# Altium footprint library TI.PcbLib: 20 footprints (part 1 of 2)
Each footprint in its own frame and in the unit in brackets; x right, y up, seen from the top. Pads: shape width x height; smd on the part's side, far side on the other; paste and mask are expansions set on the pad; w line width, h text height; cw(c..) or ccw(c..) is an arc to the next point about the centre after c.
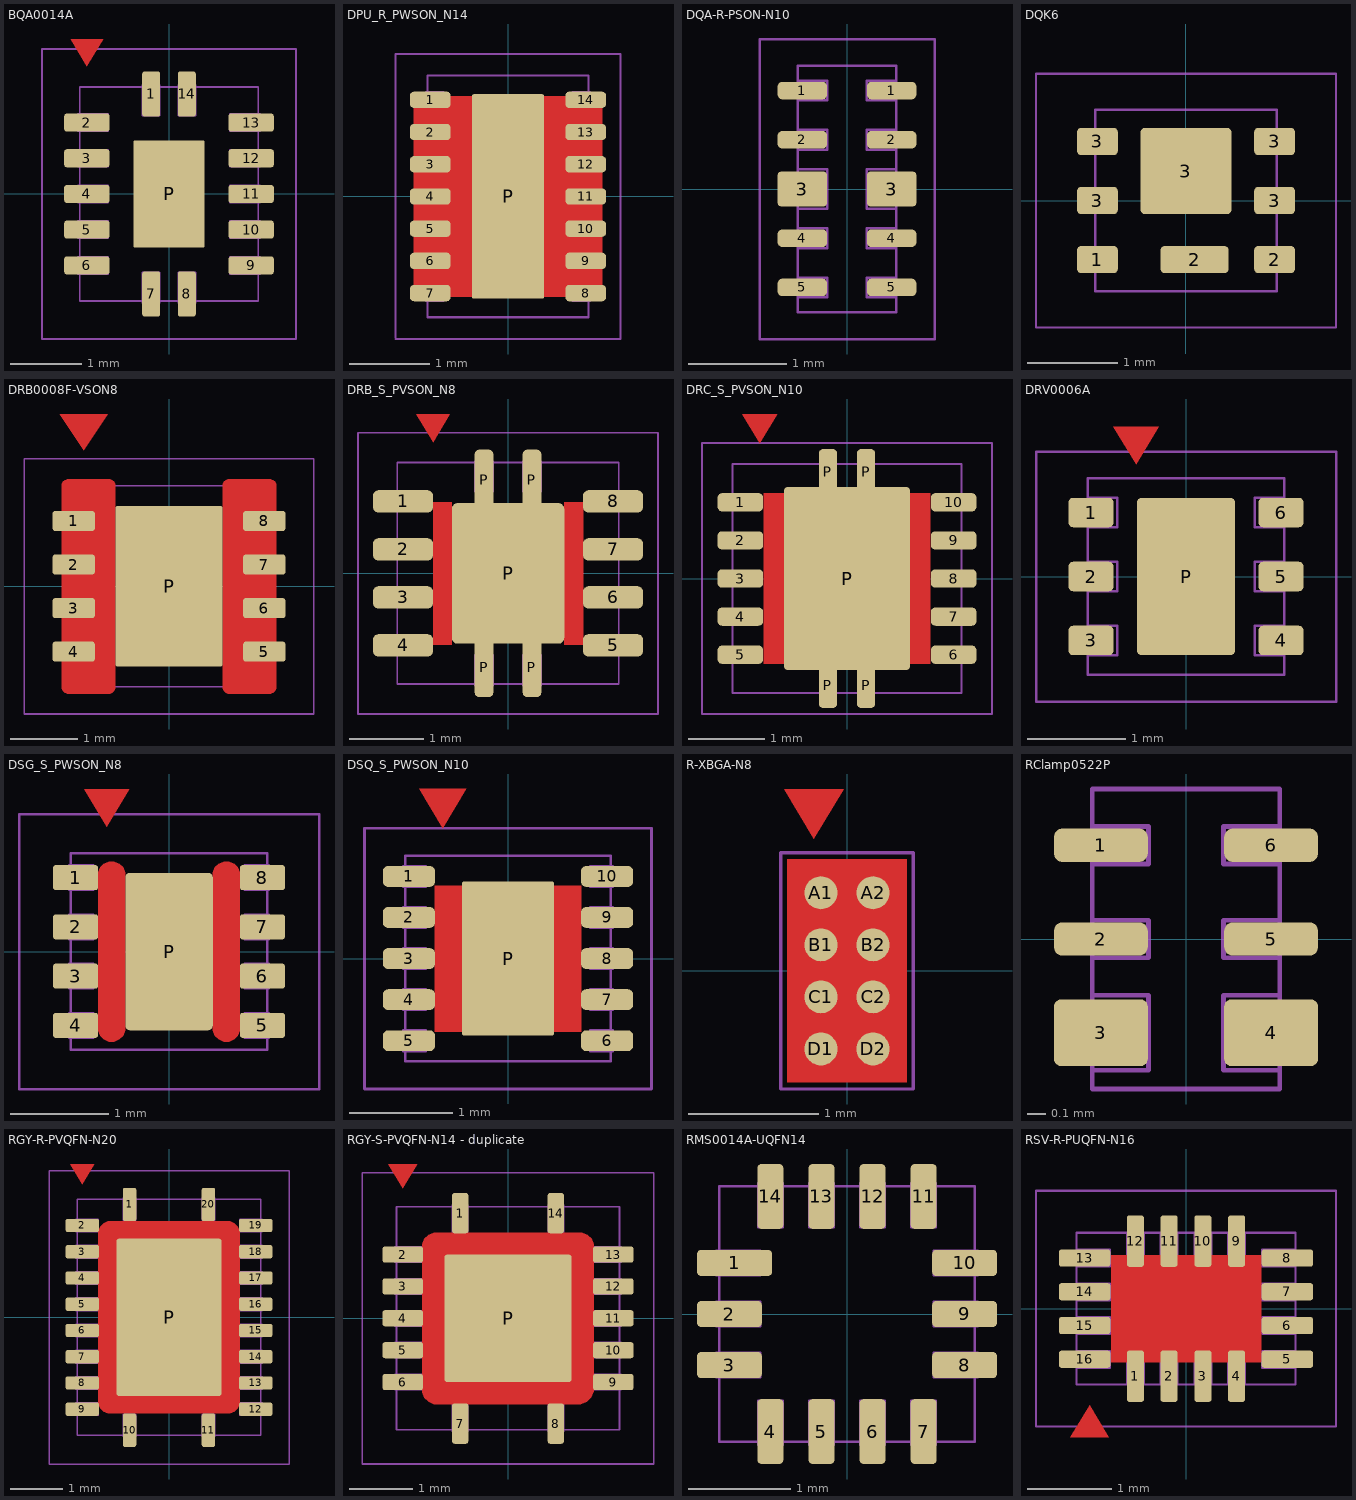
[diagram p0: the footprints below, top view; thin cyan lines are the x and y axes]

## BQA0014A [mm]
height 0.9
pads (15):
  rrect30% 0.254x0.635 smd mask+0.051: 1(-0.25,1.401) 7(-0.25,-1.401) 8(0.25,-1.401) 14(0.25,1.401)
  rrect30% 0.635x0.254 smd mask+0.051: 2(-1.151,1) 3(-1.151,0.5) 4(-1.151,0) 5(-1.151,-0.5) 6(-1.151,-1) 9(1.151,-1) 10(1.151,-0.5) 11(1.151,0) 12(1.151,0.5) 13(1.151,1)
  rrect5% 1x1.5 smd paste-200 mask+0.051: P(0,0)
Top Layer:
  region: -1.151,1.79 -0.922,2.171 -1.38,2.171
Top Paste:
  rectangle: -0.457,0.127 0.457,0.711
  region: 0.457,-0.127 -0.457,-0.127 -0.457,-0.711 0.457,-0.711
Top Courtyard:
  lines w0.025: -1.778,-2.032 1.778,-2.032 1.778,2.032 -1.778,2.032 -1.778,-2.032
Top Component Outline:
  lines w0.025: -1.278,-1.12 -1.278,-0.88 -0.85,-0.88 -0.85,-1.12 -1.278,-1.12 ; -1.278,-0.62 -0.85,-0.62 -0.85,-0.38 -1.278,-0.38 -1.278,-0.62 ; -1.278,-0.12 -1.278,0.12 -0.85,0.12 -0.85,-0.12 -1.278,-0.12 ; -1.278,0.38 -0.85,0.38 -0.85,0.62 -1.278,0.62 -1.278,0.38 ; -1.278,0.88 -0.85,0.88 -0.85,1.12 -1.278,1.12 -1.278,0.88 ; -1.25,-1.5 -1.25,1.5 1.25,1.5 1.25,-1.5 -1.25,-1.5 ; -0.37,-1.528 -0.37,-1.1 -0.13,-1.1 -0.13,-1.528 -0.37,-1.528 ; -0.37,1.1 -0.37,1.528 -0.13,1.528 -0.13,1.1 -0.37,1.1 ; 0.13,-1.528 0.37,-1.528 0.37,-1.1 0.13,-1.1 0.13,-1.528 ; 0.13,1.1 0.37,1.1 0.37,1.528 0.13,1.528 0.13,1.1 ; 0.85,-1.12 1.278,-1.12 1.278,-0.88 0.85,-0.88 0.85,-1.12 ; 0.85,-0.62 0.85,-0.38 1.278,-0.38 1.278,-0.62 0.85,-0.62 ; 0.85,-0.12 1.278,-0.12 1.278,0.12 0.85,0.12 0.85,-0.12 ; 0.85,0.38 0.85,0.62 1.278,0.62 1.278,0.38 0.85,0.38 ; 0.85,0.88 1.278,0.88 1.278,1.12 0.85,1.12 0.85,0.88
3D body: height 0.2, standoff 0, extent 0.85,0.88 1.278,1.12
3D body: height 0.2, standoff 0, extent 0.85,-0.12 1.278,0.12
3D body: height 0.2, standoff 0, extent 0.85,0.38 1.278,0.62
3D body: height 0.2, standoff 0, extent 0.85,-0.62 1.278,-0.38
3D body: height 0.2, standoff 0, extent 0.85,-1.12 1.278,-0.88
3D body: height 0.2, standoff 0, extent -0.37,1.1 -0.13,1.528
3D body: height 0.2, standoff 0, extent 0.13,1.1 0.37,1.528
3D body: height 0.79, standoff 0.03, extent -1.25,-1.5 1.25,1.5
3D body: height 0.9, standoff 0.89, extent -0.921,0.876 -0.617,1.18
3D body: height 0.2, standoff 0, extent -1.278,-0.12 -0.85,0.12
3D body: height 0.2, standoff 0, extent -1.278,-0.62 -0.85,-0.38
3D body: height 0.2, standoff 0, extent -1.278,0.38 -0.85,0.62
3D body: height 0.2, standoff 0, extent -1.278,0.88 -0.85,1.12
3D body: height 0.2, standoff 0, extent -1.278,-1.12 -0.85,-0.88
3D body: height 0.2, standoff 0, extent 0.13,-1.528 0.37,-1.1
3D body: height 0.2, standoff 0, extent -0.37,-1.528 -0.13,-1.1

## DPU_R_PWSON_N14 [mil] "10-Lead SON"
pads (15):
  rrect50% 20x8 smd mask+2: 1(-38,47.24) 2(-38,31.5) 3(-38,15.75) 4(-38,0) 5(-38,-15.75) 6(-38,-31.5) 7(-38,-47.24) 8(38,-47.24) 9(38,-31.5) 10(38,-15.75) 11(38,0) 12(38,15.75) 13(38,31.5) 14(38,47.24)
  rrect5% 35.43x100 smd paste-200 mask+2: P(0,0)
Top Layer:
  pour cut-out: -46,-49 46,-49 46,49 -46,49
Top Paste:
  region: 16,12.75 -16,12.75 -16,-12.25 16,-12.25
  rectangle: -16,23 16,48
  region: 16,-23 -16,-23 -16,-48 16,-48
Top Solder:
  region: 50,47.24 26,47.24 26,-47.24 50,-47.24
  rectangle: -50,-47.24 -26,47.24
  region: -25,66 -18,77 -32,77
Top Courtyard:
  lines w1: -55,-69.69 55,-69.69 55,69.68 -55,69.68 -55,-69
Top Component Outline:
  lines w1: -40.14,-51.18 -40.14,-43.31 -31.5,-43.31 -31.5,-51.18 -40.14,-51.18 ; -40.14,-35.43 -31.5,-35.43 -31.5,-27.56 -40.14,-27.56 -40.14,-35.43 ; -40.14,-19.68 -31.5,-19.68 -31.5,-11.81 -40.14,-11.81 -40.14,-19.68 ; -40.14,-3.94 -40.14,3.94 -31.5,3.94 -31.5,-3.94 -40.14,-3.94 ; -40.14,11.81 -31.5,11.81 -31.5,19.69 -40.14,19.69 -40.14,11.81 ; -40.14,27.56 -31.5,27.56 -31.5,35.43 -40.14,35.43 -40.14,27.56 ; -40.14,43.31 -40.14,51.18 -31.5,51.18 -31.5,43.31 -40.14,43.31 ; -39.37,-59.06 -39.37,59.05 39.37,59.05 39.37,-59.06 -39.37,-59.06 ; 31.5,-51.18 40.14,-51.18 40.14,-43.31 31.5,-43.31 31.5,-51.18 ; 31.5,-35.43 31.5,-27.56 40.14,-27.56 40.14,-35.43 31.5,-35.43 ; 31.5,-19.69 31.5,-11.81 40.14,-11.81 40.14,-19.69 31.5,-19.69 ; 31.5,-3.94 40.14,-3.94 40.14,3.94 31.5,3.94 31.5,-3.94 ; 31.5,11.81 40.14,11.81 40.14,19.68 31.5,19.68 31.5,11.81 ; 31.5,27.56 31.5,35.43 40.14,35.43 40.14,27.56 31.5,27.56 ; 31.5,43.31 40.14,43.31 40.14,51.18 31.5,51.18 31.5,43.31
3D body: height 35.43, standoff 1.97, extent -39.37,-59.06 39.37,59.06
3D body: height 7.87, standoff 0, extent -40.14,-3.94 -31.28,3.94
3D body: height 7.87, standoff 0, extent -40.14,11.81 -31.28,19.69
3D body: height 7.87, standoff 0, extent -40.14,-19.69 -31.28,-11.81
3D body: height 7.87, standoff 0, extent -40.14,43.31 -31.28,51.18
3D body: height 7.87, standoff 0, extent -40.14,27.56 -31.28,35.43
3D body: height 7.87, standoff 0, extent 31.28,-3.94 40.14,3.94
3D body: height 7.87, standoff 0, extent 31.28,-19.69 40.14,-11.81
3D body: height 7.87, standoff 0, extent 31.28,43.31 40.14,51.18
3D body: height 7.87, standoff 0, extent 31.28,11.81 40.14,19.69
3D body: height 7.87, standoff 0, extent 31.28,27.56 40.14,35.43
3D body: height 36, standoff 35, extent -30.95,38.7 -18.99,50.68
3D body: height 7.87, standoff 0, extent 31.28,-51.18 40.14,-43.31
3D body: height 7.87, standoff 0, extent 31.28,-35.43 40.14,-27.56
3D body: height 7.87, standoff 0, extent -40.14,-51.18 -31.28,-43.31
3D body: height 7.87, standoff 0, extent -40.14,-35.43 -31.28,-27.56

## DQA-R-PSON-N10 [mm]
pads (10):
  rrect50% 0.5x0.178 smd mask+0.051: 1(-0.454,1) 1(0.454,1) 2(-0.454,0.5) 2(0.454,0.5) 4(-0.454,-0.5) 4(0.454,-0.5) 5(-0.454,-1) 5(0.454,-1)
  rrect20% 0.5x0.356 smd mask+0.051: 3(-0.454,0) 3(0.454,0)
Top Courtyard:
  lines w0.025: -0.889,-1.524 -0.889,1.524 0.889,1.524 0.889,-1.524 -0.889,-1.524
Top Component Outline:
  lines w0.025: -0.5,-1.1 -0.2,-1.1 -0.2,-0.9 -0.5,-0.9 ; -0.5,-0.6 -0.2,-0.6 -0.2,-0.4 -0.5,-0.4 ; -0.5,-0.2 -0.2,-0.2 -0.2,0.2 -0.5,0.2 ; -0.5,0.4 -0.2,0.4 -0.2,0.6 -0.5,0.6 ; -0.5,0.9 -0.2,0.9 -0.2,1.1 -0.5,1.1 ; 0.5,-1.1 0.2,-1.1 0.2,-0.9 0.5,-0.9 ; 0.5,-0.6 0.2,-0.6 0.2,-0.4 0.5,-0.4 ; 0.5,-0.2 0.2,-0.2 0.2,0.2 0.5,0.2 ; 0.5,0.4 0.2,0.4 0.2,0.6 0.5,0.6 ; 0.5,0.9 0.2,0.9 0.2,1.1 0.5,1.1 ; -0.5,-1.25 -0.5,1.25 0.5,1.25 0.5,-1.25 -0.5,-1.25
3D body: height 0.58, standoff 0.01, extent -0.5,-1.25 0.5,1.25

## DQK6 [mm]
height 0.762
pads (8):
  rrect30% 0.45x0.3 smd mask+0.05: 1(-0.975,-0.65) 2(0.975,-0.65) 3(-0.975,0) 3(-0.975,0.65) 3(0.975,0) 3(0.975,0.65)
  rrect30% 0.75x0.3 smd paste-0.025 mask+0.05: 2(0.095,-0.65)
  rrect10% 1x0.95 smd paste-0.076 mask+0.05: 3(0,0.325)
Top Solder:
  region: -0.762,1.27 -0.533,1.651 -0.991,1.651
Top Courtyard:
  lines w0.025: -1.651,-1.397 1.651,-1.397 1.651,1.397 -1.651,1.397 -1.651,-1.397
Top Component Outline:
  lines w0.025: -1,-1 -1,1 1,1 1,-1 -1,-1
3D body "CSD19538Q2.step": height 0.8, standoff 0, extent -1,-1 1,1

## DRB0008F-VSON8 [mm]
height 0.9
pads (9):
  rrect30% 0.635x0.3 smd mask+0.051: 1(-1.422,0.975) 2(-1.422,0.325) 3(-1.422,-0.325) 4(-1.422,-0.975) 5(1.422,-0.975) 6(1.422,-0.325) 7(1.422,0.325) 8(1.422,0.975)
  rrect5% 1.6x2.4 smd paste-200 mask+0.051: P(0,0)
Top Layer:
  pour cut-out: -0.8,1.5 -0.8,1.52 -0.815,1.557 -0.843,1.585 -0.88,1.6 -0.9,1.6 -1.5,1.6 -1.52,1.6 -1.557,1.585 -1.585,1.557 -1.6,1.52 -1.6,1.5 -1.6,-1.5 -1.6,-1.52 -1.585,-1.557 -1.557,-1.585 -1.52,-1.6 -1.5,-1.6 -0.9,-1.6 -0.88,-1.6 -0.843,-1.585 -0.815,-1.557 -0.8,-1.52 -0.8,-1.5
  pour cut-out: 0.8,-1.5 0.8,-1.52 0.815,-1.557 0.843,-1.585 0.88,-1.6 0.9,-1.6 1.5,-1.6 1.52,-1.6 1.557,-1.585 1.585,-1.557 1.6,-1.52 1.6,-1.5 1.6,1.5 1.6,1.52 1.585,1.557 1.557,1.585 1.52,1.6 1.5,1.6 0.9,1.6 0.88,1.6 0.843,1.585 0.815,1.557 0.8,1.52 0.8,1.5
  region: -1.27,2.032 -0.911,2.571 -1.629,2.571
Top Paste:
  rectangle: -0.762,0.559 -0.127,1.168
  rectangle: -0.762,-0.305 -0.127,0.305
  rectangle: -0.762,-1.168 -0.127,-0.559
  rectangle: 0.127,-1.168 0.762,-0.559
  rectangle: 0.127,-0.305 0.762,0.305
  rectangle: 0.127,0.559 0.762,1.168
Top Courtyard:
  lines w0.025: -2.159,-1.905 -2.159,1.905 2.159,1.905 2.159,-1.905 -2.159,-1.905
Top Component Outline:
  lines w0.025: -1.524,-1.125 -1.096,-1.125 -1.096,-0.825 -1.524,-0.825 -1.524,-1.125 ; -1.524,-0.475 -1.096,-0.475 -1.096,-0.175 -1.524,-0.175 -1.524,-0.475 ; -1.524,0.175 -1.524,0.475 -1.096,0.475 -1.096,0.175 -1.524,0.175 ; -1.524,0.825 -1.096,0.825 -1.096,1.125 -1.524,1.125 -1.524,0.825 ; -1.5,-1.5 -1.5,1.5 1.5,1.5 1.5,-1.5 -1.5,-1.5 ; 1.096,-1.125 1.096,-0.825 1.524,-0.825 1.524,-1.125 1.096,-1.125 ; 1.096,-0.475 1.524,-0.475 1.524,-0.175 1.096,-0.175 1.096,-0.475 ; 1.096,0.175 1.096,0.475 1.524,0.475 1.524,0.175 1.096,0.175 ; 1.096,0.825 1.096,1.125 1.524,1.125 1.524,0.825 1.096,0.825
3D body: height 0.2, standoff 0, extent 1.096,0.825 1.524,1.125
3D body: height 0.2, standoff 0, extent 1.096,-1.125 1.524,-0.825
3D body: height 0.2, standoff 0, extent 1.096,-0.475 1.524,-0.175
3D body: height 0.2, standoff 0, extent 1.096,0.175 1.524,0.475
3D body: height 1.02, standoff 0.99, extent -1.218,0.915 -0.914,1.219
3D body: height 1, standoff 0.05, extent -1.5,-1.5 1.5,1.5
3D body: height 0.2, standoff 0, extent -1.524,-0.475 -1.096,-0.175
3D body: height 0.2, standoff 0, extent -1.524,0.175 -1.096,0.475
3D body: height 0.2, standoff 0, extent -1.524,0.825 -1.096,1.125
3D body: height 0.2, standoff 0, extent -1.524,-1.125 -1.096,-0.825

## DRB_S_PVSON_N8 [mil] "8-Lead SON"
height 39.37
pads (13):
  rrect50% 32x12 smd mask+2: 1(-56,38.39) 2(-56,12.8) 3(-56,-12.8) 4(-56,-38.39) 5(56,-38.39) 6(56,-12.8) 7(56,12.8) 8(56,38.39)
  rrect50% 10x32 smd paste-20 mask+2: P(-12.8,-50) P(-12.8,50) P(12.8,-50) P(12.8,50)
  rrect10% 60x75 smd paste-200 mask+2: P(0,0)
Top Layer:
  pour cut-out: -40,-38 -30,-38 -30,-31 30,-31 30,-38 40,-38 40,38 30,38 30,31 -30,31 -30,38 -40,38
  region: -40,70 -31,85 -49,85
Top Paste:
  rectangle: 4,-37 29,-4
  rectangle: -29,-37 -4,-4
  rectangle: 4,4 29,37
  rectangle: -29,4 -4,37
  rectangle: -17.72,-66 -7.87,-43.59
  rectangle: 7.87,-66 17.72,-43.59
  region: -7.87,66 -17.72,66 -17.72,43.59 -7.87,43.59
  region: 17.72,66 7.87,66 7.87,43.59 17.72,43.59
Top Courtyard:
  lines w1: -80,-75 80,-75 80,75 -80,75 -80,-75
Top Component Outline:
  lines w1: -59.73,-43.31 -59.73,-33.46 -43.59,-33.46 -43.59,-43.31 -59.73,-43.31 ; -59.73,-17.72 -59.73,-7.87 -43.59,-7.87 -43.59,-17.72 -59.73,-17.72 ; -59.73,7.87 -59.73,17.72 -43.59,17.72 -43.59,7.87 -59.73,7.87 ; -59.73,33.46 -43.59,33.46 -43.59,43.31 -59.73,43.31 -59.73,33.46 ; -59.06,-59.06 59.06,-59.06 59.06,59.06 -59.06,59.06 -59.06,-59.06 ; -17.72,-59.73 -17.72,-43.59 -7.87,-43.59 -7.87,-59.73 -17.72,-59.73 ; -17.72,43.59 -7.87,43.59 -7.87,59.73 -17.72,59.73 -17.72,43.59 ; 7.87,-59.73 17.72,-59.73 17.72,-43.59 7.87,-43.59 7.87,-59.73 ; 7.87,43.59 7.87,59.73 17.72,59.73 17.72,43.59 7.87,43.59 ; 43.59,-43.31 59.73,-43.31 59.73,-33.46 43.59,-33.46 43.59,-43.31 ; 43.59,-17.72 43.59,-7.87 59.73,-7.87 59.73,-17.72 43.59,-17.72 ; 43.59,7.87 43.59,17.72 59.73,17.72 59.73,7.87 43.59,7.87 ; 43.59,33.46 43.59,43.31 59.73,43.31 59.73,33.46 43.59,33.46
3D body: height 7.87, standoff 0, extent 43.59,-43.31 59.73,-33.46
3D body: height 7.87, standoff 0, extent 43.59,-17.72 59.73,-7.87
3D body: height 7.87, standoff 0, extent 43.59,7.87 59.73,17.72
3D body: height 7.87, standoff 0, extent 43.59,33.46 59.73,43.31
3D body: height 7.87, standoff 0, extent -59.73,-43.31 -43.59,-33.46
3D body: height 7.87, standoff 0, extent -59.73,-17.72 -43.59,-7.87
3D body: height 7.87, standoff 0, extent -59.73,7.87 -43.59,17.72
3D body: height 7.87, standoff 0, extent -59.73,33.46 -43.59,43.31
3D body: height 35.43, standoff 1.97, extent -59.06,-59.06 59.06,59.06
3D body: height 36, standoff 35, extent -49.54,37.33 -37.58,49.3
3D body: height 7.87, standoff 0, extent -17.72,-59.73 -7.87,-43.59
3D body: height 7.87, standoff 0, extent 7.87,-59.73 17.72,-43.59
3D body: height 7.87, standoff 0, extent -17.72,43.59 -7.87,59.73
3D body: height 7.87, standoff 0, extent 7.87,43.59 17.72,59.73

## DRC_S_PVSON_N10 [mm] "10-Lead SON"
pads (15):
  rrect50% 0.6x0.24 smd mask+0.051: 1(-1.4,1) 2(-1.4,0.5) 3(-1.4,0) 4(-1.4,-0.5) 5(-1.4,-1) 6(1.4,-1) 7(1.4,-0.5) 8(1.4,0) 9(1.4,0.5) 10(1.4,1)
  rrect50% 0.24x0.6 smd mask+0.051: P(-0.25,-1.4) P(-0.25,1.4) P(0.25,-1.4) P(0.25,1.4)
  rrect5% 1.65x2.4 smd paste-5.08 mask+0.051: P(0,0)
Top Layer:
  region: -1.143,1.778 -0.914,2.159 -1.372,2.159
  pour cut-out: -1.092,1.118 1.092,1.118 1.092,-1.118 -1.092,-1.118
Top Paste:
  rectangle: -0.762,0.127 0.762,0.889
  region: 0.762,-0.127 -0.762,-0.127 -0.762,-0.889 0.762,-0.889
Top Courtyard:
  lines w0.025: -1.905,-1.778 1.905,-1.778 1.905,1.778 -1.905,1.778 -1.905,-1.778
Top Component Outline:
  lines w0.025: -1.52,-1.1 -1.52,-0.9 -1.3,-0.9 -1.3,-1.1 -1.52,-1.1 ; -1.52,-0.6 -1.3,-0.6 -1.3,-0.4 -1.52,-0.4 -1.52,-0.6 ; -1.52,-0.1 -1.52,0.1 -1.3,0.1 -1.3,-0.1 -1.52,-0.1 ; -1.52,0.4 -1.52,0.6 -1.3,0.6 -1.3,0.4 -1.52,0.4 ; -1.52,0.9 -1.3,0.9 -1.3,1.1 -1.52,1.1 -1.52,0.9 ; -1.5,-1.5 1.5,-1.5 1.5,1.5 -1.5,1.5 -1.5,-1.5 ; 1.3,-1.1 1.52,-1.1 1.52,-0.9 1.3,-0.9 1.3,-1.1 ; 1.3,-0.6 1.3,-0.4 1.52,-0.4 1.52,-0.6 1.3,-0.6 ; 1.3,-0.1 1.3,0.1 1.52,0.1 1.52,-0.1 1.3,-0.1 ; 1.3,0.4 1.52,0.4 1.52,0.6 1.3,0.6 1.3,0.4 ; 1.3,0.9 1.3,1.1 1.52,1.1 1.52,0.9 1.3,0.9
3D body: height 0.91, standoff 0.89, extent -1.167,0.864 -0.863,1.168
3D body: height 0.9, standoff 0.05, extent -1.5,-1.5 1.5,1.5
3D body: height 0.2, standoff 0, extent 1.295,0.4 1.52,0.6
3D body: height 0.2, standoff 0, extent 1.295,-0.1 1.52,0.1
3D body: height 0.2, standoff 0, extent 1.295,0.9 1.52,1.1
3D body: height 0.2, standoff 0, extent 1.295,-1.1 1.52,-0.9
3D body: height 0.2, standoff 0, extent 1.295,-0.6 1.52,-0.4
3D body: height 0.2, standoff 0, extent -1.52,0.4 -1.295,0.6
3D body: height 0.2, standoff 0, extent -1.52,0.9 -1.295,1.1
3D body: height 0.2, standoff 0, extent -1.52,-1.1 -1.295,-0.9
3D body: height 0.2, standoff 0, extent -1.52,-0.1 -1.295,0.1
3D body: height 0.2, standoff 0, extent -1.52,-0.6 -1.295,-0.4

## DRV0006A [mm]
pads (7):
  rrect30% 0.457x0.3 smd mask+0.051: 1(-0.965,0.65) 2(-0.965,0) 3(-0.965,-0.65) 4(0.965,-0.65) 5(0.965,0) 6(0.965,0.65)
  rrect10% 1x1.6 smd mask+0.051: P(0,0)
Top Layer:
  region: -0.508,1.143 -0.279,1.524 -0.737,1.524
Top Courtyard:
  lines w0.025: -1.524,-1.27 -1.524,1.27 1.524,1.27 1.524,-1.27 -1.524,-1.27
Top Component Outline:
  lines w0.025: -1,-0.8 -0.7,-0.8 -0.7,-0.5 -1,-0.5 ; -1,-0.15 -0.7,-0.15 -0.7,0.15 -1,0.15 ; -1,0.5 -0.7,0.5 -0.7,0.8 -1,0.8 ; 1,-0.8 0.7,-0.8 0.7,-0.5 1,-0.5 ; 1,-0.15 0.7,-0.15 0.7,0.15 1,0.15 ; 1,0.5 0.7,0.5 0.7,0.8 1,0.8 ; -1,-1 1,-1 1,1 -1,1 -1,-1
3D body: height 0.2, standoff 0, extent 0.7,0.5 1.013,0.8
3D body: height 0.2, standoff 0, extent 0.7,-0.15 1.013,0.15
3D body: height 0.2, standoff 0, extent 0.7,-0.8 1.013,-0.5
3D body: height 0.2, standoff 0, extent -1.013,-0.8 -0.7,-0.5
3D body: height 0.2, standoff 0, extent -1.013,0.5 -0.7,0.8
3D body: height 0.2, standoff 0, extent -1.013,-0.15 -0.7,0.15
3D body: height 0.58, standoff 0.01, extent -1,-1 1,1

## DSG_S_PWSON_N8 [mil] "8-Lead SON"
pads (9):
  rrect20% 18x10 smd mask+2: 1(-37.37,29.53) 2(-37.37,9.84) 3(-37.37,-9.84) 4(-37.37,-29.53) 5(37.37,-29.53) 6(37.37,-9.84) 7(37.37,9.84) 8(37.37,29.53)
  rrect10% 35x63 smd paste-200 mask+2: P(0,0)
Top Layer:
  region: -25,50 -16,65 -34,65
  pour cut-out: -17.5,30.5 -17.5,31.59 -18.34,33.62 -19.88,35.16 -21.91,36 -23,36 -24.07,36 -26.04,35.18 -27.55,33.67 -28.37,31.7 -28.37,30.63 -28.37,-30.63 -28.37,-31.7 -27.55,-33.67 -26.04,-35.18 -24.07,-36 -23,-36 -21.91,-36 -19.88,-35.16 -18.34,-33.62 -17.5,-31.59 -17.5,-30.5
  pour cut-out: 17.5,-30.5 17.5,-31.59 18.34,-33.62 19.88,-35.16 21.91,-36 23,-36 24.07,-36 26.04,-35.18 27.55,-33.67 28.37,-31.7 28.37,-30.63 28.37,30.63 28.37,31.7 27.55,33.67 26.04,35.18 24.07,36 23,36 21.91,36 19.88,35.16 18.34,33.62 17.5,31.59 17.5,30.5
Top Paste:
  rectangle: -15,-30 15,-5
  rectangle: -15,5 15,30
Top Courtyard:
  lines w1: -60,-55 60,-55 60,55 -60,55 -60,-55
Top Component Outline:
  lines w1: -39.87,-34.45 -30.23,-34.45 -30.23,-24.61 -39.87,-24.61 -39.87,-34.45 ; -39.87,-14.76 -30.23,-14.76 -30.23,-4.92 -39.87,-4.92 -39.87,-14.76 ; -39.87,4.92 -39.87,14.76 -30.23,14.76 -30.23,4.92 -39.87,4.92 ; -39.87,24.61 -30.23,24.61 -30.23,34.45 -39.87,34.45 -39.87,24.61 ; -39.37,-39.37 39.37,-39.37 39.37,39.37 -39.37,39.37 -39.37,-39.37 ; 30.23,-34.45 39.87,-34.45 39.87,-24.61 30.23,-24.61 30.23,-34.45 ; 30.23,-14.76 30.23,-4.92 39.87,-4.92 39.87,-14.76 30.23,-14.76 ; 30.23,4.92 39.87,4.92 39.87,14.76 30.23,14.76 30.23,4.92 ; 30.23,24.61 39.87,24.61 39.87,34.45 30.23,34.45 30.23,24.61
3D body: height 7.87, standoff 0, extent 30.03,-14.76 39.87,-4.92
3D body: height 7.87, standoff 0, extent 30.03,-34.45 39.87,-24.61
3D body: height 7.87, standoff 0, extent 30.03,4.92 39.87,14.76
3D body: height 7.87, standoff 0, extent 30.03,24.61 39.87,34.45
3D body: height 7.87, standoff 0, extent -39.87,-34.45 -30.03,-24.61
3D body: height 7.87, standoff 0, extent -39.87,-14.76 -30.03,-4.92
3D body: height 7.87, standoff 0, extent -39.87,24.61 -30.03,34.45
3D body: height 7.87, standoff 0, extent -39.87,4.92 -30.03,14.76
3D body: height 29.53, standoff 1.97, extent -39.37,-39.37 39.37,39.37
3D body: height 30, standoff 29, extent -26.95,18.03 -15,30

## DSQ_S_PWSON_N10 [mil] "10-Lead SON"
pads (11):
  rrect50% 20x8 smd mask+2: 1(-38,31.5) 2(-38,15.75) 3(-38,0) 4(-38,-15.75) 5(-38,-31.5) 6(38,-31.5) 7(38,-15.75) 8(38,0) 9(38,15.75) 10(38,31.5)
  rrect5% 35.43x59.06 smd paste-200 mask+2: P(0,0)
Top Layer:
  pour cut-out: -28,-28 28,-28 28,28 -28,28
  region: -25,50 -16,65 -34,65
Top Paste:
  rectangle: -16,3 16,28
  region: 16,-3 -16,-3 -16,-28 16,-28
Top Courtyard:
  lines w1: -55,-50 55,-50 55,50 -55,50 -55,-50
Top Component Outline:
  lines w1: -40.14,-35.43 -40.14,-27.56 -31.5,-27.56 -31.5,-35.43 -40.14,-35.43 ; -40.14,-19.68 -31.5,-19.68 -31.5,-11.81 -40.14,-11.81 -40.14,-19.68 ; -40.14,-3.94 -40.14,3.94 -31.5,3.94 -31.5,-3.94 -40.14,-3.94 ; -40.14,11.81 -40.14,19.69 -31.5,19.69 -31.5,11.81 -40.14,11.81 ; -40.14,27.56 -31.5,27.56 -31.5,35.43 -40.14,35.43 -40.14,27.56 ; -39.37,-39.37 39.37,-39.37 39.37,39.37 -39.37,39.37 -39.37,-39.37 ; 31.5,-35.43 40.14,-35.43 40.14,-27.56 31.5,-27.56 31.5,-35.43 ; 31.5,-19.68 31.5,-11.81 40.14,-11.81 40.14,-19.68 31.5,-19.68 ; 31.5,-3.94 31.5,3.94 40.14,3.94 40.14,-3.94 31.5,-3.94 ; 31.5,11.81 40.14,11.81 40.14,19.68 31.5,19.68 31.5,11.81 ; 31.5,27.56 31.5,35.43 40.14,35.43 40.14,27.56 31.5,27.56
3D body: height 36, standoff 35, extent -30.95,19.02 -18.99,30.99
3D body: height 35.43, standoff 1.97, extent -39.37,-39.37 39.37,39.37
3D body: height 7.87, standoff 0, extent 31.28,11.81 40.14,19.69
3D body: height 7.87, standoff 0, extent 31.28,-3.94 40.14,3.94
3D body: height 7.87, standoff 0, extent 31.28,27.56 40.14,35.43
3D body: height 7.87, standoff 0, extent 31.28,-35.43 40.14,-27.56
3D body: height 7.87, standoff 0, extent 31.28,-19.68 40.14,-11.81
3D body: height 7.87, standoff 0, extent -40.14,11.81 -31.28,19.69
3D body: height 7.87, standoff 0, extent -40.14,27.56 -31.28,35.43
3D body: height 7.87, standoff 0, extent -40.14,-35.43 -31.28,-27.56
3D body: height 7.87, standoff 0, extent -40.14,-3.94 -31.28,3.94
3D body: height 7.87, standoff 0, extent -40.14,-19.68 -31.28,-11.81

## R-XBGA-N8 [mm] "CDC3RL02YFPR"
pads (8):
  round 0.254 smd mask+0.025: A1(-0.2,0.6) A2(0.2,0.6) B1(-0.2,0.2) B2(0.2,0.2) C1(-0.2,-0.2) C2(0.2,-0.2) D1(-0.2,-0.6) D2(0.2,-0.6)
Top Layer:
  pour cut-out: -0.457,0.857 -0.457,-0.857 0.457,-0.857 0.457,0.857
  region: -0.254,1.016 -0.025,1.397 -0.483,1.397
Top Designator:
  text ".Designator" at 0.227,-2.316 h0.64
Top Courtyard:
  lines w0.025: -0.508,-0.908 -0.508,0.908 0.508,0.908 0.508,-0.908 -0.508,-0.908
Top Component Outline:
  lines w0.025: -0.38,-0.78 -0.38,0.78 0.38,0.78 0.38,-0.78 -0.38,-0.78
3D body: height 0.21, standoff -0.05, extent -0.327,-0.726 -0.074,-0.473
3D body: height 0.21, standoff -0.05, extent 0.073,-0.726 0.326,-0.473
3D body: height 0.21, standoff -0.05, extent 0.073,-0.326 0.326,-0.073
3D body: height 0.21, standoff -0.05, extent -0.327,-0.326 -0.074,-0.073
3D body: height 0.21, standoff -0.05, extent -0.326,0.074 -0.074,0.327
3D body: height 0.21, standoff -0.05, extent 0.074,0.074 0.326,0.327
3D body: height 0.21, standoff -0.05, extent 0.073,0.474 0.326,0.727
3D body: height 0.21, standoff -0.05, extent -0.327,0.474 -0.074,0.727
3D body: height 0.5, standoff 0.16, extent -0.38,-0.78 0.38,0.78

## RClamp0522P [mm]
pads (6):
  rrect50% 0.5x0.178 smd mask+0.051: 1(-0.454,0.5) 2(-0.454,0) 5(0.454,0) 6(0.454,0.5)
  rrect20% 0.5x0.356 smd mask+0.051: 3(-0.454,-0.5) 4(0.454,-0.5)
Top Component Outline:
  lines w0.025: -0.5,-0.7 -0.2,-0.7 -0.2,-0.3 -0.5,-0.3 ; -0.5,-0.1 -0.2,-0.1 -0.2,0.1 -0.5,0.1 ; -0.5,0.4 -0.2,0.4 -0.2,0.6 -0.5,0.6 ; 0.5,-0.7 0.2,-0.7 0.2,-0.3 0.5,-0.3 ; 0.5,-0.1 0.2,-0.1 0.2,0.1 0.5,0.1 ; 0.5,0.4 0.2,0.4 0.2,0.6 0.5,0.6 ; -0.5,-0.8 0.5,-0.8 0.5,0.8 -0.5,0.8 -0.5,-0.8
3D body: height 0.58, standoff 0.01, extent -0.5,-0.8 0.5,0.8

## RGY-R-PVQFN-N20 [mil]
height 35.43
pads (21):
  rrect30% 10x25 smd mask+2: 1(-29.53,84.69) 10(-29.53,-84.69) 11(29.53,-84.69) 20(29.53,84.69)
  rrect30% 25x10 smd mask+2: 2(-65,68.9) 3(-65,49.21) 4(-65,29.53) 5(-65,9.84) 6(-65,-9.84) 7(-65,-29.53) 8(-65,-49.21) 9(-65,-68.9) 12(65,-68.9) 13(65,-49.21) 14(65,-29.53) 15(65,-9.84) 16(65,9.84) 17(65,29.53) 18(65,49.21) 19(65,68.9)
  rrect5% 78.74x118.11 smd paste-7874.02 mask+2: P(0,0)
Top Layer:
  region: -65,100 -56,115 -74,115
  pour cut-out: 44,72 45.79,72 49.1,70.63 51.63,68.1 53,64.79 53,63 53,-63 53,-64.79 51.63,-68.1 49.1,-70.63 45.79,-72 44,-72 -44,-72 -45.79,-72 -49.1,-70.63 -51.63,-68.1 -53,-64.79 -53,-63 -53,63 -53,64.79 -51.63,68.1 -49.1,70.63 -45.79,72 -44,72
Top Paste:
  rectangle: 5,-15 35,15
  rectangle: -35,-15 -5,15
  rectangle: 5,-55 35,-25
  rectangle: -35,-55 -5,-25
  rectangle: -35,25 -5,55
  rectangle: 5,25 35,55
Top Courtyard:
  lines w1: -90,-110 -90,110 90,110 90,-110 -90,-110
Top Component Outline:
  lines w1: -70,-73.62 -53.15,-73.62 -53.15,-64.17 -70,-64.17 -70,-73.62 ; -70,-53.94 -70,-44.49 -53.15,-44.49 -53.15,-53.94 -70,-53.94 ; -70,-34.25 -53.15,-34.25 -53.15,-24.8 -70,-24.8 -70,-34.25 ; -70,-14.57 -70,-5.12 -53.15,-5.12 -53.15,-14.57 -70,-14.57 ; -70,5.12 -53.15,5.12 -53.15,14.57 -70,14.57 -70,5.12 ; -70,24.8 -70,34.25 -53.15,34.25 -53.15,24.8 -70,24.8 ; -70,44.49 -53.15,44.49 -53.15,53.94 -70,53.94 -70,44.49 ; -70,64.17 -53.15,64.17 -53.15,73.62 -70,73.62 -70,64.17 ; -68.9,-88.58 -68.9,88.58 68.9,88.58 68.9,-88.58 -68.9,-88.58 ; -34.25,-89.69 -24.8,-89.69 -24.8,-72.83 -34.25,-72.83 -34.25,-89.69 ; -34.25,72.83 -34.25,89.69 -24.8,89.69 -24.8,72.83 -34.25,72.83 ; 24.8,-89.69 24.8,-72.83 34.25,-72.83 34.25,-89.69 24.8,-89.69 ; 24.8,72.83 34.25,72.83 34.25,89.69 24.8,89.69 24.8,72.83 ; 53.15,-73.62 70,-73.62 70,-64.17 53.15,-64.17 53.15,-73.62 ; 53.15,-53.94 70,-53.94 70,-44.49 53.15,-44.49 53.15,-53.94 ; 53.15,-34.25 53.15,-24.8 70,-24.8 70,-34.25 53.15,-34.25 ; 53.15,-14.57 70,-14.57 70,-5.12 53.15,-5.12 53.15,-14.57 ; 53.15,5.12 53.15,14.57 70,14.57 70,5.12 53.15,5.12 ; 53.15,24.8 70,24.8 70,34.25 53.15,34.25 53.15,24.8 ; 53.15,44.49 53.15,53.94 70,53.94 70,44.49 53.15,44.49 ; 53.15,64.17 70,64.17 70,73.62 53.15,73.62 53.15,64.17
3D body: height 7.87, standoff 0, extent 53.15,64.17 70,73.62
3D body: height 7.87, standoff 0, extent 53.15,24.8 70,34.25
3D body: height 7.87, standoff 0, extent 53.15,44.49 70,53.94
3D body: height 7.87, standoff 0, extent 53.15,5.12 70,14.57
3D body: height 7.87, standoff 0, extent 53.15,-73.62 70,-64.17
3D body: height 7.87, standoff 0, extent 53.15,-53.94 70,-44.49
3D body: height 7.87, standoff 0, extent 53.15,-14.57 70,-5.12
3D body: height 7.87, standoff 0, extent 53.15,-34.25 70,-24.8
3D body: height 7.87, standoff 0, extent -34.25,72.83 -24.8,89.69
3D body: height 7.87, standoff 0, extent 24.8,72.83 34.25,89.69
3D body: height 7.87, standoff 0, extent -34.25,-89.69 -24.8,-72.83
3D body: height 7.87, standoff 0, extent 24.8,-89.69 34.25,-72.83
3D body: height 35.43, standoff 1.97, extent -68.9,-88.58 68.9,88.58
3D body: height 35.6, standoff 35, extent -55.95,64.02 -43.99,75.99
3D body: height 7.87, standoff 0, extent -70,24.8 -53.15,34.25
3D body: height 7.87, standoff 0, extent -70,5.12 -53.15,14.57
3D body: height 7.87, standoff 0, extent -70,44.49 -53.15,53.94
3D body: height 7.87, standoff 0, extent -70,64.17 -53.15,73.62
3D body: height 7.87, standoff 0, extent -70,-14.57 -53.15,-5.12
3D body: height 7.87, standoff 0, extent -70,-53.94 -53.15,-44.49
3D body: height 7.87, standoff 0, extent -70,-34.25 -53.15,-24.8
3D body: height 7.87, standoff 0, extent -70,-73.62 -53.15,-64.17

## RGY-S-PVQFN-N14 - duplicate [mil]
height 35.43
pads (15):
  rrect30% 10x25 smd mask+2: 1(-29.53,65) 7(-29.53,-65) 8(29.53,-65) 14(29.53,65)
  rrect30% 25x10 smd mask+2: 2(-65,39.37) 3(-65,19.68) 4(-65,0) 5(-65,-19.69) 6(-65,-39.37) 9(65,-39.37) 10(65,-19.69) 11(65,0) 12(65,19.68) 13(65,39.37)
  rrect5% 78.74x78.74 smd paste-7874.02 mask+2: P(0,0)
Top Layer:
  region: -65,80.31 -56,95.31 -74,95.31
  pour cut-out: -53,44 -53,45.79 -51.63,49.1 -49.1,51.63 -45.79,53 -44,53 44,53 45.79,53 49.1,51.63 51.63,49.1 53,45.79 53,44 53,-43 53,-44.99 51.48,-48.66 48.66,-51.48 44.99,-53 43,-53 -44,-53 -45.79,-53 -49.1,-51.63 -51.63,-49.1 -53,-45.79 -53,-44
Top Paste:
  rectangle: -35,-35 -5,-5
  rectangle: 5,-35 35,-5
  rectangle: 5,5 35,35
  rectangle: -35,5 -5,35
Top Courtyard:
  lines w1: -90,-90 -90,90 90,90 90,-90 -90,-90
Top Component Outline:
  lines w1: -70,-44.09 -70,-34.65 -53.15,-34.65 -53.15,-44.09 -70,-44.09 ; -70,-24.41 -53.15,-24.41 -53.15,-14.96 -70,-14.96 -70,-24.41 ; -70,-4.72 -70,4.72 -53.15,4.72 -53.15,-4.72 -70,-4.72 ; -70,14.96 -53.15,14.96 -53.15,24.41 -70,24.41 -70,14.96 ; -70,34.65 -53.15,34.65 -53.15,44.09 -70,44.09 -70,34.65 ; -68.9,-68.9 -68.9,68.9 68.9,68.9 68.9,-68.9 -68.9,-68.9 ; -34.25,-70 -34.25,-53.15 -24.8,-53.15 -24.8,-70 -34.25,-70 ; -34.25,53.15 -34.25,70 -24.8,70 -24.8,53.15 -34.25,53.15 ; 24.8,-70 34.25,-70 34.25,-53.15 24.8,-53.15 24.8,-70 ; 24.8,53.15 34.25,53.15 34.25,70 24.8,70 24.8,53.15 ; 53.15,-44.09 70,-44.09 70,-34.65 53.15,-34.65 53.15,-44.09 ; 53.15,-24.41 53.15,-14.96 70,-14.96 70,-24.41 53.15,-24.41 ; 53.15,-4.72 70,-4.72 70,4.72 53.15,4.72 53.15,-4.72 ; 53.15,14.96 53.15,24.41 70,24.41 70,14.96 53.15,14.96 ; 53.15,34.65 70,34.65 70,44.09 53.15,44.09 53.15,34.65
3D body: height 7.87, standoff 0, extent 53.15,34.65 70,44.09
3D body: height 7.87, standoff 0, extent 53.15,-4.72 70,4.72
3D body: height 7.87, standoff 0, extent 53.15,14.96 70,24.41
3D body: height 7.87, standoff 0, extent 53.15,-24.41 70,-14.96
3D body: height 7.87, standoff 0, extent 53.15,-44.09 70,-34.65
3D body: height 7.87, standoff 0, extent -34.25,53.15 -24.8,70
3D body: height 7.87, standoff 0, extent 24.8,53.15 34.25,70
3D body: height 35.43, standoff 1.97, extent -68.9,-68.9 68.9,68.9
3D body: height 35.6, standoff 35, extent -55.95,44.34 -43.99,56.31
3D body: height 7.87, standoff 0, extent -70,-4.72 -53.15,4.72
3D body: height 7.87, standoff 0, extent -70,-24.41 -53.15,-14.96
3D body: height 7.87, standoff 0, extent -70,14.96 -53.15,24.41
3D body: height 7.87, standoff 0, extent -70,34.65 -53.15,44.09
3D body: height 7.87, standoff 0, extent -70,-44.09 -53.15,-34.65
3D body: height 7.87, standoff 0, extent 24.8,-70 34.25,-53.15
3D body: height 7.87, standoff 0, extent -34.25,-70 -24.8,-53.15

## RMS0014A-UQFN14 [mil]
pads (14):
  rrect30% 28.94x10 smd mask+2: 1(-43.35,19.68)
  rrect30% 25x10 smd mask+2: 2(-45.32,0) 3(-45.32,-19.69) 8(45.32,-19.68) 9(45.32,0) 10(45.32,19.69)
  rrect30% 10x25 smd mask+2: 4(-29.53,-45.32) 5(-9.84,-45.32) 6(9.84,-45.32) 7(29.53,-45.32) 11(29.53,45.32) 12(9.84,45.32) 13(-9.84,45.32) 14(-29.53,45.32)
Top Component Outline:
  lines w1: -50.32,-24.41 -50.32,-14.96 -33.47,-14.96 -33.47,-24.41 -50.32,-24.41 ; -50.32,-4.72 -50.32,4.72 -33.47,4.72 -33.47,-4.72 -50.32,-4.72 ; -50.32,14.96 -33.47,14.96 -33.47,24.41 -50.32,24.41 -50.32,14.96 ; -49.21,-49.21 -49.21,49.21 49.21,49.21 49.21,-49.21 -49.21,-49.21 ; -34.25,-50.32 -24.8,-50.32 -24.8,-33.47 -34.25,-33.47 -34.25,-50.32 ; -34.25,33.47 -24.8,33.47 -24.8,50.32 -34.25,50.32 -34.25,33.47 ; -14.57,-50.32 -14.57,-33.47 -5.12,-33.47 -5.12,-50.32 -14.57,-50.32 ; -14.57,33.47 -5.12,33.47 -5.12,50.32 -14.57,50.32 -14.57,33.47 ; 5.12,-50.32 5.12,-33.47 14.57,-33.47 14.57,-50.32 5.12,-50.32 ; 5.12,33.47 14.57,33.47 14.57,50.32 5.12,50.32 5.12,33.47 ; 24.8,-50.32 24.8,-33.47 34.25,-33.47 34.25,-50.32 24.8,-50.32 ; 24.8,33.47 24.8,50.32 34.25,50.32 34.25,33.47 24.8,33.47 ; 33.47,-24.41 33.47,-14.96 50.32,-14.96 50.32,-24.41 33.47,-24.41 ; 33.47,-4.72 50.32,-4.72 50.32,4.72 33.47,4.72 33.47,-4.72 ; 33.47,14.96 50.32,14.96 50.32,24.41 33.47,24.41 33.47,14.96
3D body: height 7.87, standoff 0, extent -34.25,33.47 -24.8,50.32
3D body: height 7.87, standoff 0, extent 5.12,33.47 14.57,50.32
3D body: height 7.87, standoff 0, extent 24.8,33.47 34.25,50.32
3D body: height 7.87, standoff 0, extent -14.57,33.47 -5.12,50.32
3D body: height 7.87, standoff 0, extent 24.8,-50.32 34.25,-33.47
3D body: height 7.87, standoff 0, extent -14.57,-50.32 -5.12,-33.47
3D body: height 7.87, standoff 0, extent -34.25,-50.32 -24.8,-33.47
3D body: height 7.87, standoff 0, extent 5.12,-50.32 14.57,-33.47
3D body: height 23.62, standoff 1.97, extent -49.21,-49.21 49.21,49.21
3D body: height 7.87, standoff 0, extent -50.32,-4.72 -33.47,4.72
3D body: height 7.87, standoff 0, extent -50.32,14.96 -33.47,24.41
3D body: height 7.87, standoff 0, extent -50.32,-24.41 -33.47,-14.96
3D body: height 7.87, standoff 0, extent 33.47,-4.72 50.32,4.72
3D body: height 7.87, standoff 0, extent 33.47,-24.41 50.32,-14.96
3D body: height 7.87, standoff 0, extent 33.47,14.96 50.32,24.41
3D body: height 24, standoff 23, extent -36.26,24.65 -24.31,36.62

## RSV-R-PUQFN-N16 [mil]
height 35.43
pads (16):
  rrect30% 8x24 smd mask+2: 1(-23.62,-31.54) 2(-7.87,-31.54) 3(7.87,-31.54) 4(23.62,-31.54) 9(23.62,31.54) 10(7.87,31.54) 11(-7.87,31.54) 12(-23.62,31.54)
  rrect30% 24x8 smd mask+2: 5(47.28,-23.62) 6(47.28,-7.87) 7(47.28,7.87) 8(47.28,23.62) 13(-47.28,23.62) 14(-47.28,7.87) 15(-47.28,-7.87) 16(-47.28,-23.62)
Top Layer:
  region: -45,-45 -54,-60 -36,-60
  pour cut-out: -35,25 35,25 35,-25 -35,-25
Top Designator:
  text ".Designator" at -127.64,-12.5 h35
Top Courtyard:
  lines w1: -70,-55 70,-55 70,55 -70,55 -70,-55
Top Component Outline:
  lines w1: -51.18,-27.56 -35.43,-27.56 -35.43,-19.68 -51.18,-19.68 ; -51.18,-11.81 -35.43,-11.81 -35.43,-3.94 -51.18,-3.94 ; -51.18,3.94 -35.43,3.94 -35.43,11.81 -51.18,11.81 ; -51.18,19.68 -35.43,19.68 -35.43,27.56 -51.18,27.56 ; -27.56,-35.43 -27.56,-19.69 -19.68,-19.69 -19.68,-35.43 ; -27.56,35.43 -27.56,19.69 -19.68,19.69 -19.68,35.43 ; -11.81,-35.43 -11.81,-19.69 -3.94,-19.69 -3.94,-35.43 ; -11.81,35.43 -11.81,19.69 -3.94,19.69 -3.94,35.43 ; 3.94,-35.43 3.94,-19.69 11.81,-19.69 11.81,-35.43 ; 3.94,35.43 3.94,19.69 11.81,19.69 11.81,35.43 ; 19.68,-35.43 19.68,-19.69 27.56,-19.69 27.56,-35.43 ; 19.68,35.43 19.68,19.69 27.56,19.69 27.56,35.43 ; 51.18,-27.56 35.43,-27.56 35.43,-19.68 51.18,-19.68 ; 51.18,-11.81 35.43,-11.81 35.43,-3.94 51.18,-3.94 ; 51.18,3.94 35.43,3.94 35.43,11.81 51.18,11.81 ; 51.18,19.68 35.43,19.68 35.43,27.56 51.18,27.56 ; -51.18,-35.43 51.18,-35.43 51.18,35.43 -51.18,35.43 -51.18,-35.43
3D body: height 7.87, standoff 0, extent -51.97,-11.81 -35.43,-3.94
3D body: height 7.87, standoff 0, extent -51.97,-27.56 -35.43,-19.68
3D body: height 7.87, standoff 0, extent -51.97,3.94 -35.43,11.81
3D body: height 7.87, standoff 0, extent -51.97,19.68 -35.43,27.56
3D body: height 7.87, standoff 0, extent -11.81,19.69 -3.94,36.22
3D body: height 7.87, standoff 0, extent -27.56,19.69 -19.68,36.22
3D body: height 7.87, standoff 0, extent 3.94,19.69 11.81,36.22
3D body: height 7.87, standoff 0, extent 19.68,19.69 27.56,36.22
3D body: height 7.87, standoff 0, extent 35.43,3.94 51.97,11.81
3D body: height 7.87, standoff 0, extent 35.43,19.68 51.97,27.56
3D body: height 7.87, standoff 0, extent 35.43,-11.81 51.97,-3.94
3D body: height 7.87, standoff 0, extent 35.43,-27.56 51.97,-19.68
3D body: height 7.87, standoff 0, extent -27.56,-36.22 -19.68,-19.69
3D body: height 7.87, standoff 0, extent -11.81,-36.22 -3.94,-19.69
3D body: height 7.87, standoff 0, extent 19.68,-36.22 27.56,-19.69
3D body: height 7.87, standoff 0, extent 3.94,-36.22 11.81,-19.69
3D body: height 20, standoff 19, extent -30.98,-21.97 -19.02,-10
3D body: height 19.68, standoff 1.97, extent -51.18,-35.43 51.18,35.43